# EAGLE library part QT240 (library dviid)
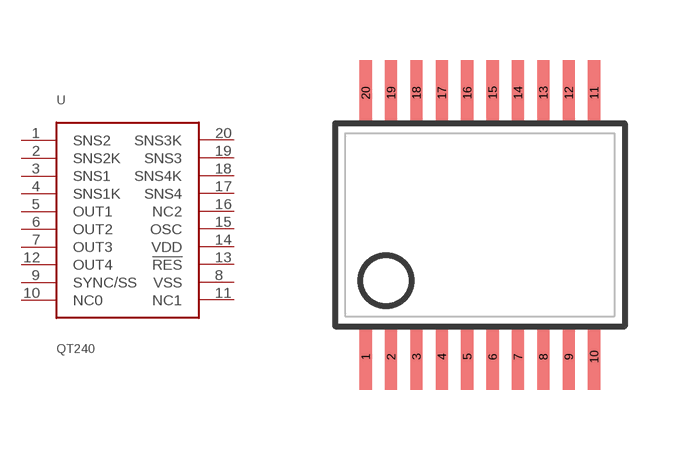
[diagram p1: symbol with the pads of SSOP20; footprint SSOP20]

Designator prefix -

## QT240  [SSOP20]
1  SNS2
2  SNS2K
3  SNS1
4  SNS1K
5  OUT1  out
6  OUT2  out
7  OUT3  out
8  VSS  pwr
9  SYNC/SS
10  NC0  nc
11  NC1  nc
12  OUT4  out
13  !RES  in
14  VDD  pwr
15  OSC
16  NC2  nc
17  SNS4
18  SNS4K
19  SNS3
20  SNS3K

## Footprint SSOP20 (pad centres in mm)
smd 0.305 x 1.651: 1 -3.2,-2.971; 2 -2.565,-2.971; 3 -1.93,-2.971; 4 -1.295,-2.971; 5 -0.66,-2.971; 6 -0.025,-2.971; 7 0.61,-2.971; 8 1.245,-2.971; 9 1.88,-2.971; 10 2.515,-2.971; 11 2.515,3.633; 12 1.88,3.633; 13 1.245,3.633; 14 0.61,3.633; 15 -0.025,3.633; 16 -0.66,3.633; 17 -1.295,3.633; 18 -1.93,3.633; 19 -2.565,3.633; 20 -3.2,3.633